# Altium footprint library OWMR.PcbLib: 59 footprints (part 1 of 4)
Each footprint in its own frame and in the unit in brackets; x right, y up, seen from the top. Pads: shape width x height; smd on the part's side, far side on the other; paste and mask are expansions set on the pad; w line width, h text height; cw(c..) or ccw(c..) is an arc to the next point about the centre after c.
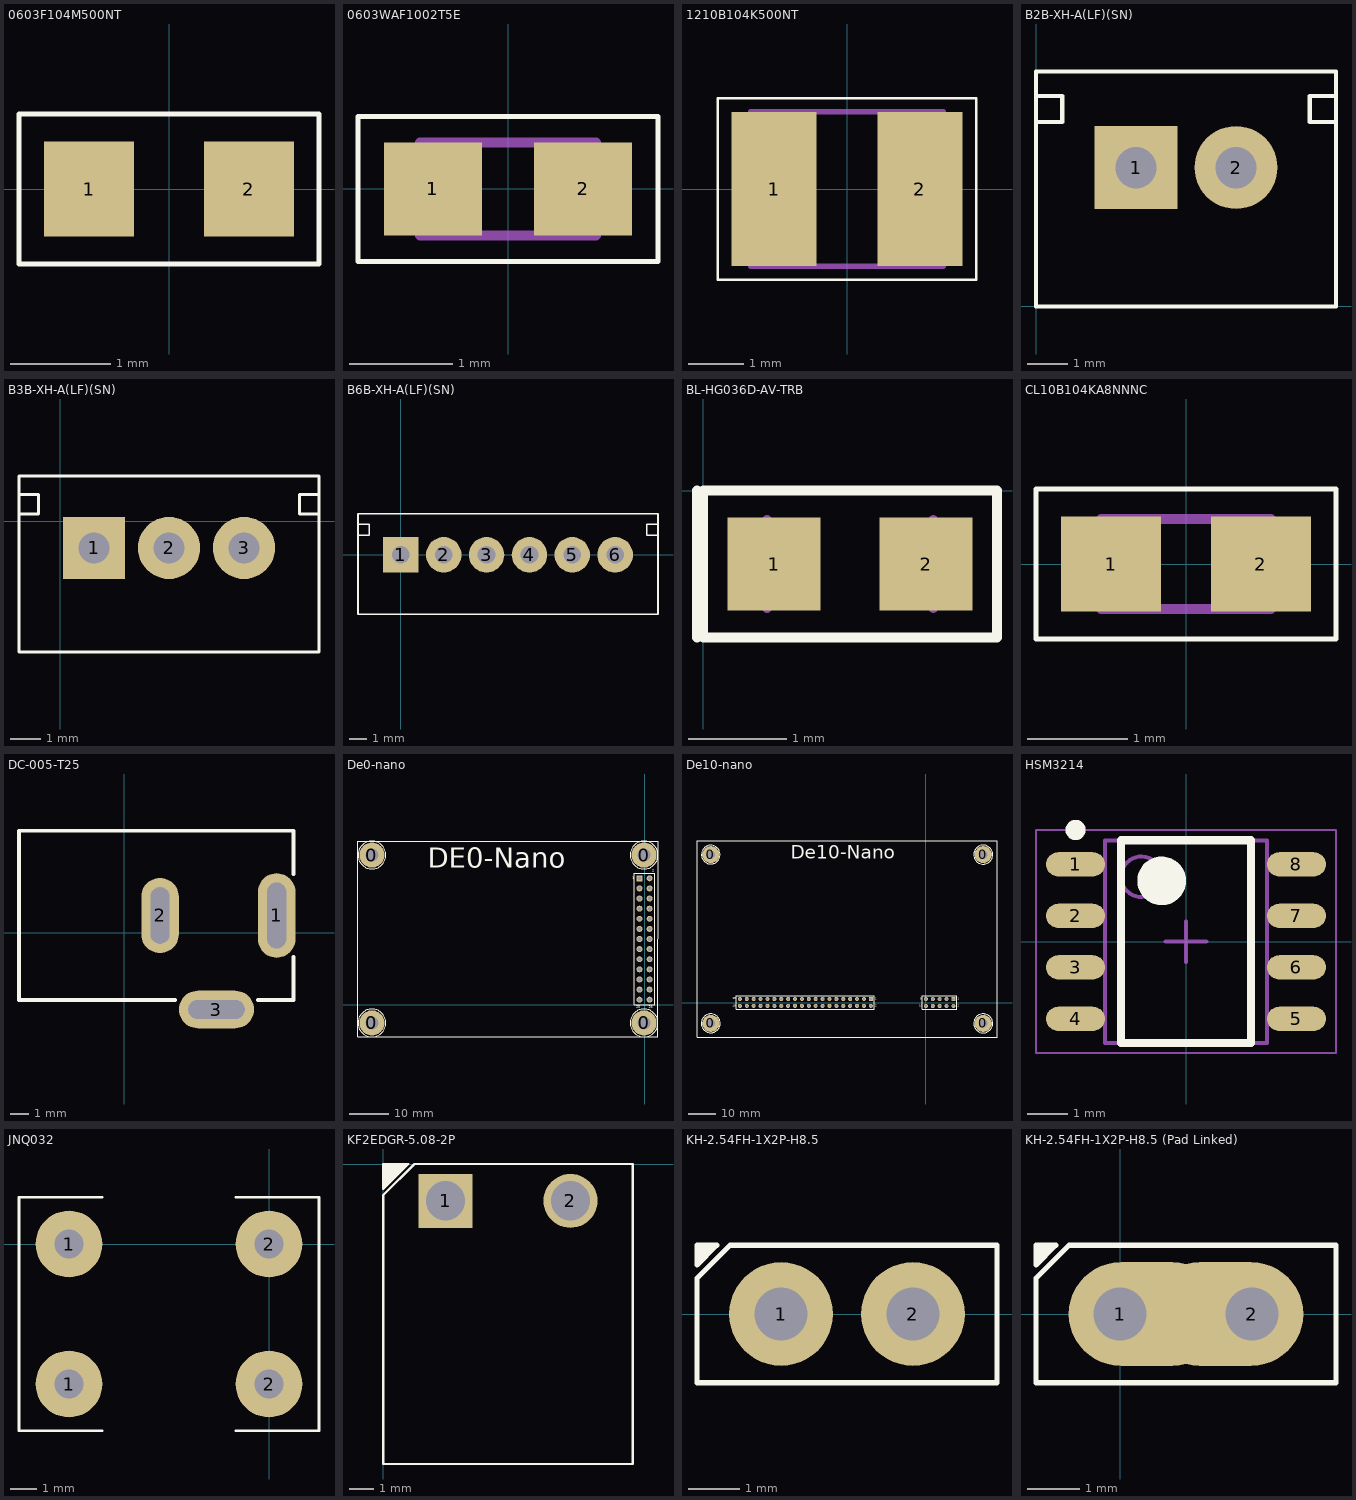
[diagram p0: the footprints below, top view; thin cyan lines are the x and y axes]

## 0603F104M500NT [mm] "0603 50V 0.1uF SMD MLCC"
height 0.9
pads (2):
  rect 0.9x0.95 smd: 1(-0.8,0) 2(0.8,0)
Top Overlay:
  lines w0.05: -1.5,-0.75 -1.5,0.75 1.5,0.75 1.5,-0.75 -1.5,-0.75
3D body "CAPC1608X09N.step": height 0.9, standoff 0, extent -0.85,-0.45 0.85,0.45

## 0603WAF1002T5E [mm] "1/10W Thick Film Resistors 75V ±1% ±100ppm/℃ -55℃~+155℃ 10kΩ 0603  Chip Resistor - Surface Mount ROHS"
height 0.55
pads (2):
  rect 0.95x0.9 smd: 1(-0.725,0) 2(0.725,0)
Top Overlay:
  lines w0.05: -1.45,-0.7 1.45,-0.7 1.45,0.7 -1.45,0.7 -1.45,-0.7
Top Assembly:
  lines w0.1: -0.85,-0.45 0.85,-0.45 0.85,0.45 -0.85,0.45 -0.85,-0.45
3D body "RESC1608X06N.step": height 0.55, standoff 0, extent -0.85,-0.45 0.85,0.45

## 1210B104K500NT [mm] "50V 100nF X7R ±10% 1210  Multilayer Ceramic Capacitors MLCC - SMD/SMT ROHS"
height 2.8
pads (2):
  rect 1.55x2.8 smd: 1(-1.325,0) 2(1.325,0)
Top Overlay:
  lines w0.05: -2.35,-1.65 2.35,-1.65 2.35,1.65 -2.35,1.65 -2.35,-1.65
Top Assembly:
  lines w0.1: -1.75,-1.4 1.75,-1.4 1.75,1.4 -1.75,1.4 -1.75,-1.4
3D body "CAPC3225X28N.step": height 2.8, standoff 0, extent -1.75,-1.4 1.75,1.4

## B2B-XH-A(LF)(SN) [mil] "1x2P XH Header, Top Vesion"
height 275.59
pads (2):
  rect 80x80 hole 40: 1(96.46,133.86)
  round 80 hole 40: 2(192.91,133.86)
Top Overlay:
  lines w3.94: 0.3,177.76 25.3,177.76 25.3,202.76 0.3,202.76 ; 289.07,177.76 264.07,177.76 264.07,202.76 289.07,202.76 ; 0,0 0,226.38 289.37,226.38 289.37,0 0,0

## B3B-XH-A(LF)(SN) [mil] "1x3P XH Header, Top Vesion"
height 275.59
pads (3):
  rect 80x80 hole 40: 1(43.31,-34.45)
  round 80 hole 40: 2(139.76,-34.45) 3(236.22,-34.45)
Top Overlay:
  lines w3.94: -52.85,9.45 -27.85,9.45 -27.85,34.45 -52.85,34.45 ; 332.38,9.45 307.38,9.45 307.38,34.45 332.38,34.45 ; -53.15,-168.31 -53.15,58.07 332.68,58.07 332.68,-168.31 -53.15,-168.31

## B6B-XH-A(LF)(SN) [mil] "1x6P XH 1 2.5mm 6 Brass Plugin,P=2.5mm  Wire To Board / Wire To Wire Connector ROHS"
height 275.59
pads (6):
  rect 80x80 hole 40: 1(0,0)
  round 80 hole 40: 2(96.46,0) 3(192.91,0) 4(289.37,0) 5(385.83,0) 6(482.28,0)
Top Overlay:
  lines w3.94: -96.16,43.9 -71.16,43.9 -71.16,68.9 -96.16,68.9 ; 578.44,43.9 553.44,43.9 553.44,68.9 578.44,68.9 ; -96.46,-133.86 578.74,-133.86 578.74,92.52 -96.46,92.52 -96.46,-133.86

## BL-HG036D-AV-TRB [mm] "0603 SMD LED(G)"
height 0.9
pads (2):
  rect 0.95x0.95 smd: 1(0.725,-0.75) 2(2.275,-0.75)
Top Overlay:
  lines w0.1: -0.064,-1.5 -0.064,0 ; 0,-1.5 0,0 3,0 3,-1.5 0,-1.5
Top Assembly:
  lines w0.1: 0.65,-1.2 0.65,-0.3 ; 2.35,-1.2 2.35,-0.3
3D body "DIOC1608X09N.step": height 0.9, standoff 0, extent 0.65,-1.2 2.35,-0.3

## CL10B104KA8NNNC [mm] "0603 25V 100nF MLCC"
height 0.55
pads (2):
  rect 1x0.95 smd: 1(-0.75,0) 2(0.75,0)
Top Overlay:
  lines w0.05: -1.5,-0.75 1.5,-0.75 1.5,0.75 -1.5,0.75 -1.5,-0.75
Top Assembly:
  lines w0.1: -0.85,-0.45 0.85,-0.45 0.85,0.45 -0.85,0.45 -0.85,-0.45
3D body "CAPC1608X06N.step": height 0.55, standoff 0, extent -0.85,-0.45 0.85,0.45

## DC-005-T25 [mm] "30V 3A 2.5mm Power Connector"
height 10.8
pads (3):
  oval 2x4.5 hole 1 slot 3.5 at 90 deg: 1(8.105,0.905)
  oval 2x4 hole 1 slot 3 at 90 deg: 2(1.905,0.905)
  oval 4x2 hole 1 slot 3 at 0 deg: 3(4.905,-4.095)
Top Overlay:
  lines w0.2: 2.705,-3.595 -5.595,-3.595 -5.595,5.405 9.005,5.405 9.005,3.105 ; 7.105,-3.595 9.005,-3.595 9.005,-1.295

## De0-nano [mm]
pads (30):
  round 6.35 hole 3.2: 0(-68.453,-4.572) 0(-68.453,37.592) 0(-0.127,-4.572) 0(-0.127,37.592)
  rect 1.5x1.5 hole 0.9: 1(-1.27,31.75)
  round 1.5 hole 0.9: 2(1.27,31.75) 3(-1.27,29.21) 4(1.27,29.21) 5(-1.27,26.67) 6(1.27,26.67) 7(-1.27,24.13) 8(1.27,24.13) 9(-1.27,21.59) 10(1.27,21.59) 11(-1.27,19.05) 12(1.27,19.05) 13(-1.27,16.51) 14(1.27,16.51) 15(-1.27,13.97) 16(1.27,13.97) 17(-1.27,11.43) 18(1.27,11.43) 19(-1.27,8.89) 20(1.27,8.89) 21(-1.27,6.35) 22(1.27,6.35) 23(-1.27,3.81) 24(1.27,3.81) 25(-1.27,1.27) 26(1.27,1.27)
Top Overlay:
  circle w0.254: c-0.127,37.592 r3.504
  circle w0.254: c-68.453,-4.572 r3.504
  circle w0.254: c-0.127,-4.572 r3.504
  circle w0.254: c-68.453,37.592 r3.504
  lines w0.2: -2.54,0 -2.54,33.02 2.54,33.02 2.54,0 -2.54,0
  lines w0.254: -71.957,-8.076 -71.957,41.096 3.377,41.096 3.377,-8.076 -71.957,-8.076
  text "1" at -3.07,31.5 h0.64
  text "26" at 1.1,-0.9 h0.64
  text "25" at -2.1,-0.9 h0.64
  text "2" at 1.9,33.4 h0.64
  text "DE0-Nano" at -54.453,34.428 h5
Bottom Overlay:
  circle w0.254: c-68.453,-4.572 r3.504
  circle w0.254: c-0.127,-4.572 r3.504
  circle w0.254: c-68.453,37.592 r3.504
  circle w0.254: c-0.127,37.592 r3.504

## De10-nano [mm]
pads (54):
  round 6.35 hole 3.2: 0(-79.31,-7.7) 0(-79.31,54.53) 0(21.13,-7.7) 0(21.13,54.53)
  rect 1.5x1.5 hole 0.9: 1(10.16,1.27) 11(-20.31,1.3)
  round 1.5 hole 0.9: 2(10.16,-1.27) 3(7.62,1.27) 4(7.62,-1.27) 5(5.08,1.27) 6(5.08,-1.27) 7(2.54,1.27) 8(2.54,-1.27) 9(0,1.27) 10(0,-1.27) 12(-20.31,-1.24) 13(-22.85,1.3) 14(-22.85,-1.24) 15(-25.39,1.3) 16(-25.39,-1.24) 17(-27.93,1.3) 18(-27.93,-1.24) 19(-30.47,1.3) 20(-30.47,-1.24) 21(-33.01,1.3) 22(-33.01,-1.24) 23(-35.55,1.3) 24(-35.55,-1.24) 25(-38.09,1.3) 26(-38.09,-1.24) 27(-40.63,1.3) 28(-40.63,-1.24) 29(-43.17,1.3) 30(-43.17,-1.24) 31(-45.71,1.3) 32(-45.71,-1.24) 33(-48.25,1.3) 34(-48.25,-1.24) 35(-50.79,1.3) 36(-50.79,-1.24) 37(-53.33,1.3) 38(-53.33,-1.24) 39(-55.87,1.3) 40(-55.87,-1.24) 41(-58.41,1.3) 42(-58.41,-1.24) 43(-60.95,1.3) 44(-60.95,-1.24) 45(-63.49,1.3) 46(-63.49,-1.24) 47(-66.03,1.3) 48(-66.03,-1.24) 49(-68.57,1.3) 50(-68.57,-1.24)
Top Overlay:
  circle w0.254: c-79.31,-7.7 r3.486
  circle w0.254: c-79.31,54.53 r3.441
  circle w0.254: c21.13,54.53 r3.504
  circle w0.254: c21.13,-7.7 r3.502
  lines w0.254: -84.39,-12.78 -84.39,59.61 26.21,59.61 26.21,-12.78 -84.39,-12.78 ; -69.84,-2.47 -69.84,2.53 -19.04,2.53 -19.04,-2.47 -69.84,-2.47 ; -1.27,-2.5 -1.27,2.5 11.43,2.5 11.43,-2.5 -1.27,-2.5
  text "1" at -18.67,1.03 h0.64
  text "2" at -18.67,-1.57 h0.64
  text "10" at -2.5,-1.5 h0.64
  text "9" at -2,1 h0.64
  text "1" at 11.8,1 h0.64
  text "2" at 11.8,-1.5 h0.64
  text "39" at -71.17,1.13 h0.64
  text "40" at -71.17,-1.57 h0.64
  text "De10-Nano" at -49.8,53.07 h5
Bottom Overlay:
  circle w0.254: c-79.31,-7.7 r3.486
  circle w0.254: c-79.31,54.53 r3.441
  circle w0.254: c21.13,-7.7 r3.502
  circle w0.254: c21.13,54.53 r3.504

## HSM3214 [mm] "30V 10A 12mΩ@10V,8A 1.5W 2.5V@250μA 2 N-Channel SOP-8  MOSFETs ROHS"
height 1.75
pads (8):
  oval 1.45x0.6 smd: 1(-2.725,1.905) 2(-2.725,0.635) 3(-2.725,-0.635) 4(-2.725,-1.905) 5(2.725,-1.905) 6(2.725,-0.635) 7(2.725,0.635) 8(2.725,1.905)
Top Overlay:
  circle w0.6: c-0.6,1.5 r0.3
  circle w0.25: c-2.725,2.755 r0.125
  lines w0.2: -1.6,-2.5 1.6,-2.5 1.6,2.5 -1.6,2.5 -1.6,-2.5
Top Assembly:
  circle w0.1: c-1.1,1.6 r0.5
  lines w0.1: -2,-2.5 2,-2.5 2,2.5 -2,2.5 -2,-2.5
Bottom 3D body:
  lines w0.05: -3.7,-2.75 3.7,-2.75 3.7,2.75 -3.7,2.75 -3.7,-2.75
  lines w0.1: -0.5,0 0.5,0 ; 0,-0.5 0,0.5
3D body "SOIC127P600X175-8N.step": height 1.75, standoff 0, extent -3,-2.5 3,2.5

## JNQ032 [mm] "30A 4.8mm Short Connection"
height 8.8
pads (4):
  round 2.54 hole 1.1 square: 1(-7.62,-5.334) 1(-7.62,0) 2(0,-5.334) 2(0,0)
Top Overlay:
  lines w0.1: -6.35,-7.112 -9.525,-7.112 -9.525,1.778 -6.35,1.778 ; -1.27,-7.112 1.905,-7.112 1.905,1.778 -1.27,1.778
3D body: height 8.8, standoff 0, extent -1.524,-6.858 1.524,1.524
3D body: height 8.8, standoff 0, extent -9.144,-6.858 -6.096,1.524

## KF2EDGR-5.08-2P [mm] "KF2EDGR-5.08 header, side version, 2 pin"
pads (2):
  rect 2.2x2.2 hole 1.6: 1(2.54,-1.5)
  round 2.2 hole 1.6: 2(7.62,-1.5)
Top Overlay:
  region: 0,0 1.016,0 0,-1.016
  lines w0.1: 0,-12.2 10.16,-12.2 10.16,0 1.27,0 0,-1.27 0,-12.2 ; 0,-1.016 0,0 1.016,0 0,-1.016
3D body: height 8.4, standoff 0, extent 0,-12.2 10.16,0

## KH-2.54FH-1X2P-H8.5 [mm] "1x2P Female Headers"
height 8.5
pads (2):
  round 2 hole 1.02: 1(-10.16,0) 2(-7.62,0)
Top Overlay:
  region: -11.399,1.325 -11.78,1.325 -11.78,0.944
  lines w0.1: -11.78,-1.325 -6,-1.325 -6,1.325 -11.145,1.325 -11.78,0.69 -11.78,-1.325 ; -11.78,0.944 -11.399,1.325 -11.78,1.325 -11.78,0.944
3D body: height 3.2, standoff 0, extent -11.811,-1.325 -6,1.325
3D body: height 8.65, standoff 0, extent -11.777,-1.335 -6,1.315

## KH-2.54FH-1X2P-H8.5 (Pad Linked) [mm] "Two Pad Linked, 1x2P Female Headers"
height 8.5
pads (2):
  oval 3x2 hole 1.02 copper offset 0.51,0: 1(0,0)
  oval 3x2 hole 1.02 copper offset -0.51,0: 2(2.54,0)
Top Overlay:
  region: -1.239,1.325 -1.62,1.325 -1.62,0.944
  lines w0.1: -1.62,-1.325 4.16,-1.325 4.16,1.325 -0.985,1.325 -1.62,0.69 -1.62,-1.325 ; -1.62,0.944 -1.239,1.325 -1.62,1.325 -1.62,0.944
3D body: height 8.65, standoff 0, extent -1.617,-1.335 4.16,1.315
3D body: height 3.2, standoff 0, extent -1.651,-1.325 4.16,1.325